# Altium integrated library Altium Database Library V2.IntLib: 721 symbols (part 11 of 35)

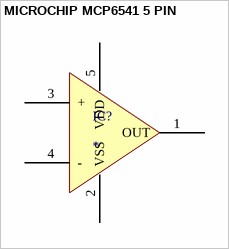
[diagram p230: symbol MICROCHIP MCP6541 5 PIN]

## MICROCHIP MCP6541 5 PIN
designator IC?
pins: 1 OUT, 2 VSS (power), 3 +, 4 -, 5 VDD (power)


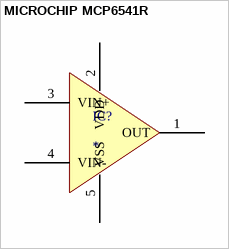
[diagram p231: symbol MICROCHIP MCP6541R]

## MICROCHIP MCP6541R
designator IC?
pins: 1 OUT, 2 VDD (power), 3 VIN+, 4 VIN-, 5 VSS (power)


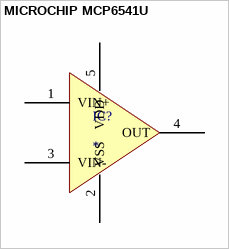
[diagram p232: symbol MICROCHIP MCP6541U]

## MICROCHIP MCP6541U
designator IC?
pins: 1 VIN+, 2 VSS (power), 3 VIN-, 4 OUT, 5 VDD (power)


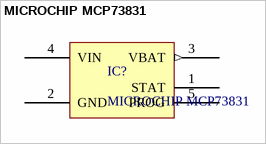
[diagram p233: symbol MICROCHIP MCP73831]

## MICROCHIP MCP73831
designator IC?
Miniature Single-Cell, Fully integrated Li-Ion, Li-Polymer charge management controllers
pins: 1 STAT, 2 GND, 3 VBAT (out), 4 VIN, 5 PROG


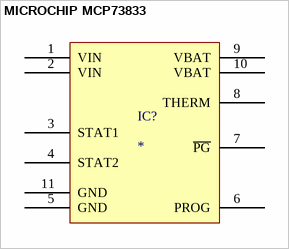
[diagram p234: symbol MICROCHIP MCP73833]

## MICROCHIP MCP73833
designator IC?
pins: 1 VIN, 2 VIN, 3 STAT1, 4 STAT2, 5 GND, 6 PROG, 7 ~{PG}, 8 THERM, 9 VBAT, 10 VBAT, 11 GND


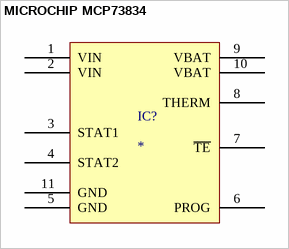
[diagram p235: symbol MICROCHIP MCP73834]

## MICROCHIP MCP73834
designator IC?
pins: 1 VIN, 2 VIN, 3 STAT1, 4 STAT2, 5 GND, 6 PROG, 7 ~{TE}, 8 THERM, 9 VBAT, 10 VBAT, 11 GND


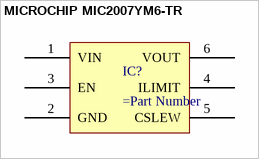
[diagram p236: symbol MICROCHIP MIC2007YM6-TR]

## MICROCHIP MIC2007YM6-TR
designator IC?
pins: 1 VIN, 2 GND, 3 EN, 4 ILIMIT, 5 CSLEW, 6 VOUT


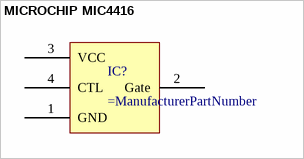
[diagram p237: symbol MICROCHIP MIC4416]

## MICROCHIP MIC4416
designator IC?
pins: 1 GND, 2 Gate, 3 VCC, 4 CTL


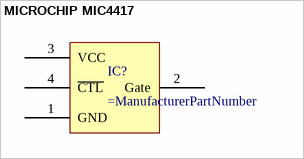
[diagram p238: symbol MICROCHIP MIC4417]

## MICROCHIP MIC4417
designator IC?
pins: 1 GND, 2 Gate, 3 VCC, 4 ~{CTL}


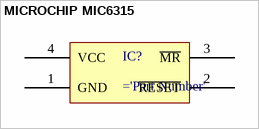
[diagram p239: symbol MICROCHIP MIC6315]

## MICROCHIP MIC6315
designator IC?
pins: 1 GND, 2 ~{RESET}, 3 ~{MR}, 4 VCC


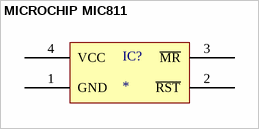
[diagram p240: symbol MICROCHIP MIC811]

## MICROCHIP MIC811
designator IC?
pins: 1 GND, 2 ~{RST}, 3 ~{MR}, 4 VCC


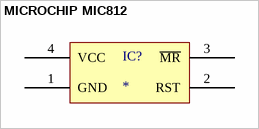
[diagram p241: symbol MICROCHIP MIC812]

## MICROCHIP MIC812
designator IC?
pins: 1 GND, 2 RST, 3 ~{MR}, 4 VCC


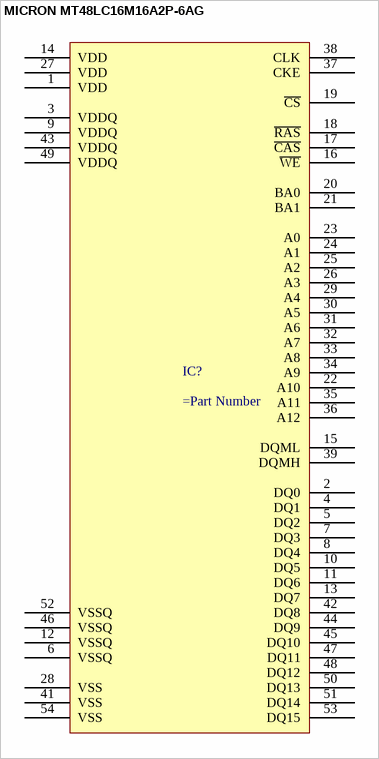
[diagram p242: symbol MICRON MT48LC16M16A2P-6AG]

## MICRON MT48LC16M16A2P-6AG
designator IC?
pins: 1 VDD, 2 DQ0, 3 VDDQ, 4 DQ1, 5 DQ2, 6 VSSQ, 7 DQ3, 8 DQ4, 9 VDDQ, 10 DQ5, 11 DQ6, 12 VSSQ, 13 DQ7, 14 VDD, 15 DQML, 16 ~{WE}, 17 ~{CAS}, 18 ~{RAS}, 19 ~{CS}, 20 BA0, 21 BA1, 22 A10, 23 A0, 24 A1, 25 A2, 26 A3, 27 VDD, 28 VSS, 29 A4, 30 A5, 31 A6, 32 A7, 33 A8, 34 A9, 35 A11, 36 A12, 37 CKE, 38 CLK, 39 DQMH, 41 VSS, 42 DQ8, 43 VDDQ, 44 DQ9, 45 DQ10, 46 VSSQ, 47 DQ11, 48 DQ12, 49 VDDQ, 50 DQ13, 51 DQ14, 52 VSSQ, 53 DQ15, 54 VSS


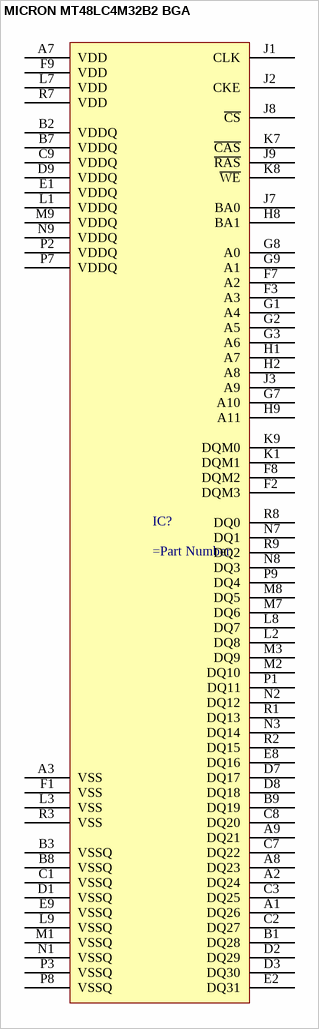
[diagram p243: symbol MICRON MT48LC4M32B2 BGA]

## MICRON MT48LC4M32B2 BGA
designator IC?
pins: A1 DQ26, A2 DQ24, A3 VSS, A7 VDD, A8 DQ23, A9 DQ21, B1 DQ28, B2 VDDQ, B3 VSSQ, B7 VDDQ, B8 VSSQ, B9 DQ19, C1 VSSQ, C2 DQ27, C3 DQ25, C7 DQ22, C8 DQ20, C9 VDDQ, D1 VSSQ, D2 DQ29, D3 DQ30, D7 DQ17, D8 DQ18, D9 VDDQ, E1 VDDQ, E2 DQ31, E8 DQ16, E9 VSSQ, F1 VSS, F2 DQM3, F3 A3, F7 A2, F8 DQM2, F9 VDD, G1 A4, G2 A5, G3 A6, G7 A10, G8 A0, G9 A1, H1 A7, H2 A8, H8 BA1, H9 A11, J1 CLK, J2 CKE, J3 A9, J7 BA0, J8 ~{CS}, J9 ~{RAS}, K1 DQM1, K7 ~{CAS}, K8 ~{WE}, K9 DQM0, L1 VDDQ, L2 DQ8, L3 VSS, L7 VDD, L8 DQ7, L9 VSSQ, M1 VSSQ, M2 DQ10, M3 DQ9, M7 DQ6, M8 DQ5, M9 VDDQ, N1 VSSQ, N2 DQ12, N3 DQ14, N7 DQ1, N8 DQ3, N9 VDDQ, P1 DQ11, P2 VDDQ, P3 VSSQ, P7 VDDQ, P8 VSSQ, P9 DQ4, R1 DQ13, R2 DQ15, R3 VSS, R7 VDD, R8 DQ0, R9 DQ2


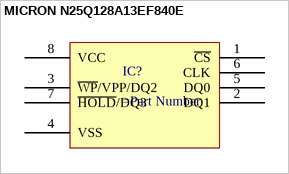
[diagram p244: symbol MICRON N25Q128A13EF840E]

## MICRON N25Q128A13EF840E
designator IC?
pins: 1 ~{CS}, 2 DQ1, 3 ~{WP}/VPP/DQ2, 4 VSS, 5 DQ0, 6 CLK, 7 ~{HOLD}/DQ3, 8 VCC


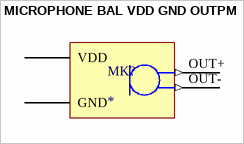
[diagram p245: symbol MICROPHONE BAL VDD GND OUTPM]

## MICROPHONE BAL VDD GND OUTPM
designator MK?
pins: G GND, OUT+ (out), OUT- (out), VDD


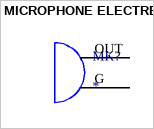
[diagram p246: symbol MICROPHONE ELECTRET]

## MICROPHONE ELECTRET
designator MK?
pins: G GND, OUT


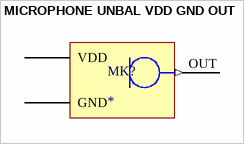
[diagram p247: symbol MICROPHONE UNBAL VDD GND OUT]

## MICROPHONE UNBAL VDD GND OUT
designator MK?
pins: G GND, OUT (out), VDD


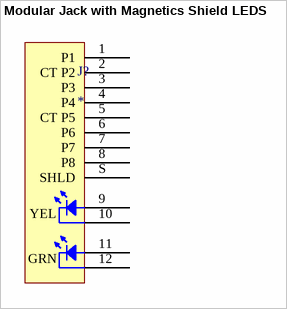
[diagram p248: symbol Modular Jack with Magnetics Shield LEDS]

## Modular Jack with Magnetics Shield LEDS
designator J?
pins: 1 P1, 2 CT P2, 3 P3, 4 P4, 5 CT P5, 6 P6, 7 P7, 8 P8, 9 P9, 10 P10, 11 P11, 12 P12, S SHLD
text: YEL; GRN


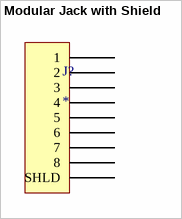
[diagram p249: symbol Modular Jack with Shield]

## Modular Jack with Shield
designator J?
pins: 1, 2, 3, 4, 5, 6, 7, 8, S SHLD


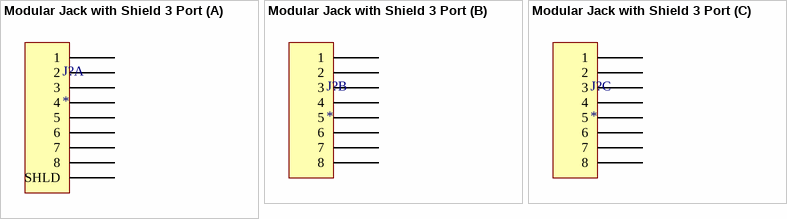
[diagram p250: symbol Modular Jack with Shield 3 Port]

## Modular Jack with Shield 3 Port
designator J?
part A pins: A1 1, A2 2, A3 3, A4 4, A5 5, A6 6, A7 7, A8 8, S SHLD
part B pins: B1 1, B2 2, B3 3, B4 4, B5 5, B6 6, B7 7, B8 8
part C pins: C1 1, C2 2, C3 3, C4 4, C5 5, C6 6, C7 7, C8 8


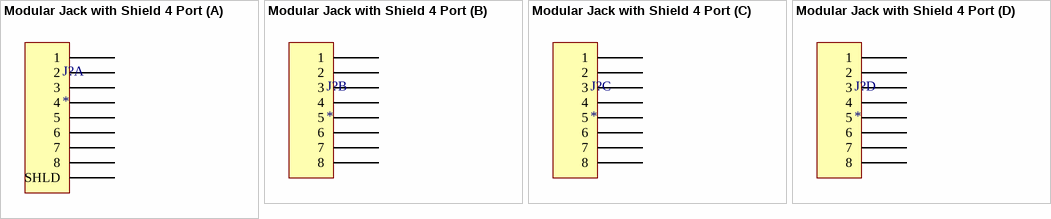
[diagram p251: symbol Modular Jack with Shield 4 Port]

## Modular Jack with Shield 4 Port
designator J?
part A pins: A1 1, A2 2, A3 3, A4 4, A5 5, A6 6, A7 7, A8 8, S SHLD
part B pins: B1 1, B2 2, B3 3, B4 4, B5 5, B6 6, B7 7, B8 8
part C pins: C1 1, C2 2, C3 3, C4 4, C5 5, C6 6, C7 7, C8 8
part D pins: D1 1, D2 2, D3 3, D4 4, D5 5, D6 6, D7 7, D8 8


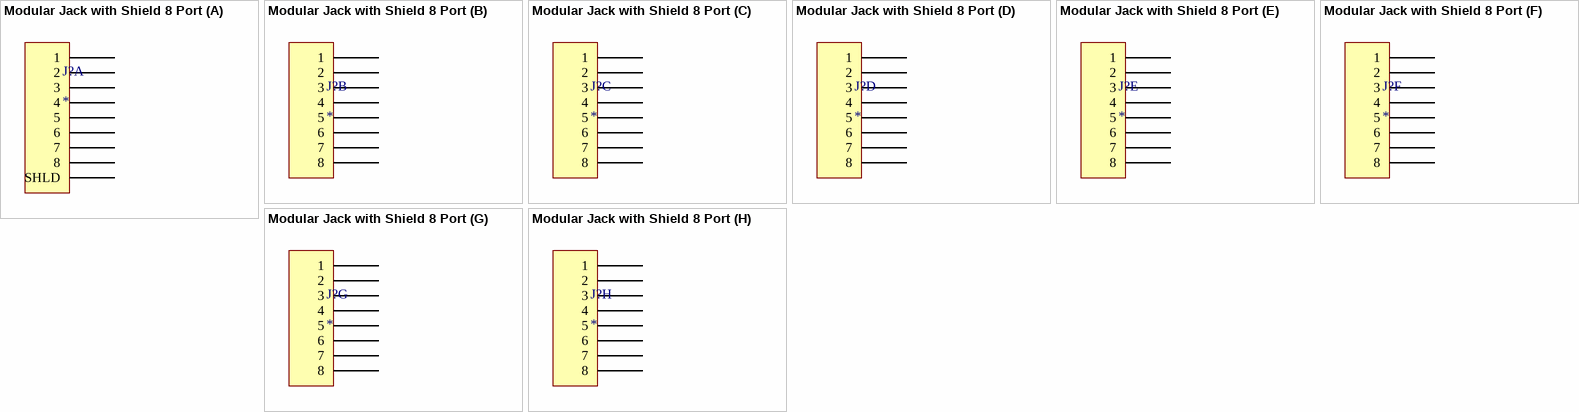
[diagram p252: symbol Modular Jack with Shield 8 Port]

## Modular Jack with Shield 8 Port
designator J?
part A pins: A1 1, A2 2, A3 3, A4 4, A5 5, A6 6, A7 7, A8 8, S SHLD
part B pins: B1 1, B2 2, B3 3, B4 4, B5 5, B6 6, B7 7, B8 8
part C pins: C1 1, C2 2, C3 3, C4 4, C5 5, C6 6, C7 7, C8 8
part D pins: D1 1, D2 2, D3 3, D4 4, D5 5, D6 6, D7 7, D8 8
part E pins: E1 1, E2 2, E3 3, E4 4, E5 5, E6 6, E7 7, E8 8
part F pins: F1 1, F2 2, F3 3, F4 4, F5 5, F6 6, F7 7, F8 8
part G pins: G1 1, G2 2, G3 3, G4 4, G5 5, G6 6, G7 7, G8 8
part H pins: H1 1, H2 2, H3 3, H4 4, H5 5, H6 6, H7 7, H8 8
